# Altium integrated library ON Semi MOSFETs.IntLib: 1097 symbols (part 2 of 26)
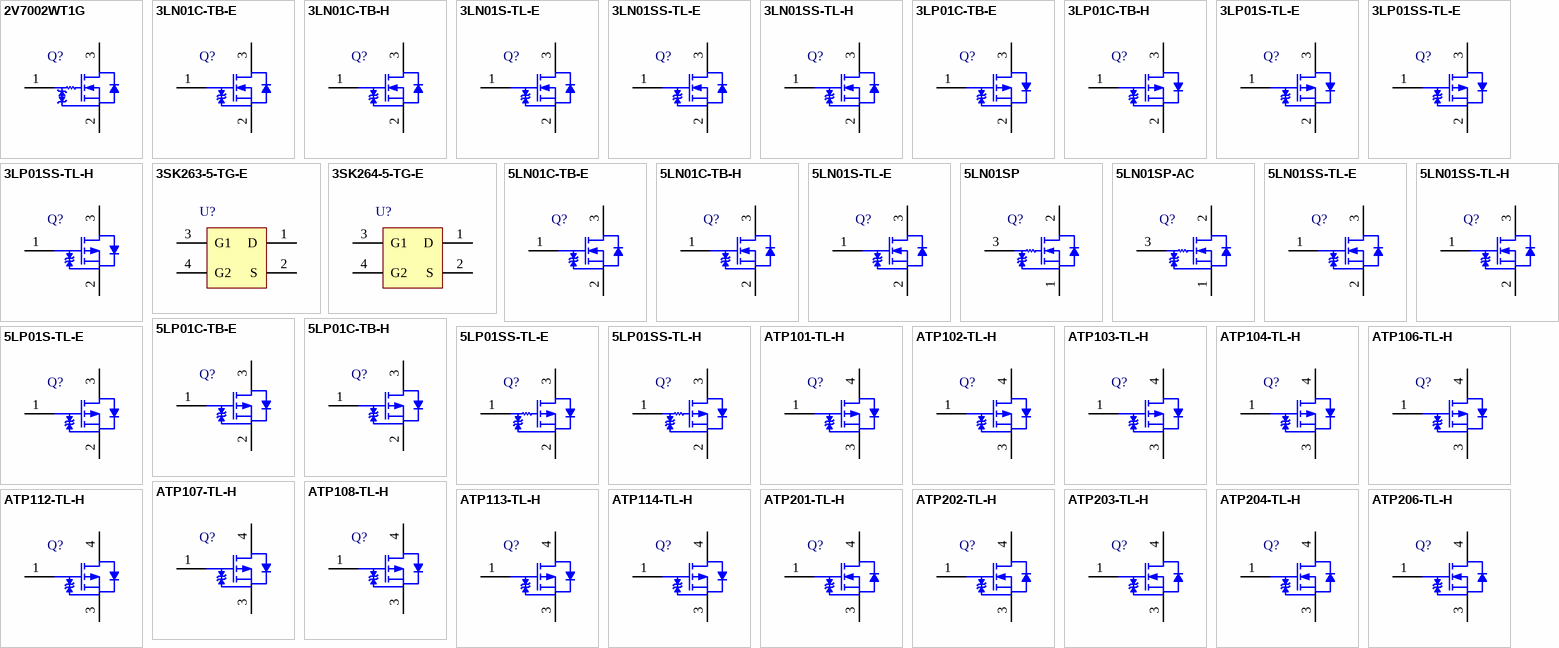
[diagram p32: symbols 2V7002WT1G to ATP206-TL-H]

## 3LN01C-TB-E
designator Q?
N-Channel Small Signal MOSFET, 30 V, 0.15 A, 3.7 Ohm, 3-Pin CP, Pb-Free, Tape and Reel; Manufacturer: On Semiconductor; PartNumber: 3LN01C-TB-E; Channel Polarity: N Channel; Ciss Typ (pF): 7; Configuration: Single; Coss Typ (pF): 5.9; Crss Typ (pF): 2.3; ID Max (A): 0.15; PD Max (W): 0.25; V(BR)DSS Min (V): 30; VGS Max (V): 10; VGS(th) Max (V): 1.3; PackageReference: CP-3-318AN_A; PackageDescription: 3-Pin Small Outline Transistor, Body 2.9 x 1.5 mm, Pitch 0.95 mm; Supplier 1: Mouser; Supplier Part Number 1: 863-3LN01C-TB-E; Package Type: SC-59 / CP; Packing: Tape and Reel; RoHS: Pb-Free; Mounting Technology: Surface Mount; ComponentLink1Description: Manufacturer URL; ComponentLink1URL: http://www.onsemi.com/; ComponentLink2Description: Datasheet; ComponentLink2URL: http://www.onsemi.com/pub_link/Collateral/3LN01C-D.PDF; ComponentLink3Description: Package Specification; ComponentLink3URL: http://www.onsemi.com/pub_link/Collateral/EN6619-D.PDF
footprint ONSC-CP-3-318AN_A_V (SOT23, 3-Leads, Body 2.9x1.5mm, Pitch 0.95mm)
pins: 1 G, 2 S, 3 D

## 3LN01C-TB-H
designator Q?
N-Channel Small Signal MOSFET, 30 V, 0.15 A, 3.7 Ohm, 3-Pin CP, Pb-Free, Tape and Reel; Manufacturer: On Semiconductor; PartNumber: 3LN01C-TB-H; Channel Polarity: N Channel; Ciss Typ (pF): 7; Configuration: Single; Coss Typ (pF): 5.9; Crss Typ (pF): 2.3; ID Max (A): 0.15; PD Max (W): 0.25; V(BR)DSS Min (V): 30; VGS Max (V): 10; VGS(th) Max (V): 1.3; PackageReference: CP-3-318AN_A; PackageDescription: 3-Pin Small Outline Transistor, Body 2.9 x 1.5 mm, Pitch 0.95 mm; Supplier 1: Digi-Key; Supplier Part Number 1: 3LN01C-TB-H-ND; Supplier 2: Mouser; Supplier Part Number 2: 863-3LN01C-TB-H; Package Type: SC-59 / CP; Packing: Tape and Reel; RoHS: Pb-Free; Mounting Technology: Surface Mount; ComponentLink1Description: Manufacturer URL; ComponentLink1URL: http://www.onsemi.com/; ComponentLink2Description: Datasheet; ComponentLink2URL: http://www.onsemi.com/pub_link/Collateral/3LN01C-D.PDF; ComponentLink3Description: Package Specification; ComponentLink3URL: http://www.onsemi.com/pub_link/Collateral/EN6619-D.PDF
footprint ONSC-CP-3-318AN_A_V (SOT23, 3-Leads, Body 2.9x1.5mm, Pitch 0.95mm)
pins: 1 G, 2 S, 3 D

## 3LN01S-TL-E
designator Q?
N-Channel Small Signal MOSFET, 30 V, 0.15 A, 3.7 Ohm, 3-Pin SMCP, Pb-Free, Tape and Reel; Manufacturer: On Semiconductor; PartNumber: 3LN01S-TL-E; Channel Polarity: N Channel; Ciss Typ (pF): 7; Configuration: Single; Coss Typ (pF): 5.9; Crss Typ (pF): 2.3; ID Max (A): 0.15; V(BR)DSS Min (V): 30; VGS Max (V): 10; VGS(th) Max (V): 1.3; PackageReference: SMCP-3; PackageDescription: 3-Pin Small Outline Transistor, Body 1.6 x 0.8 mm, Pitch 0.5 mm; Supplier 1: Digi-Key; Supplier Part Number 1: 3LN01S-TL-E-ND; Supplier 2: Mouser; Supplier Part Number 2: 863-3LN01S-TL-E; Package Type: SC-75 / SMCP; Packing: Tape and Reel; PD Max (W): 0.15; RoHS: Pb-Free; Mounting Technology: Surface Mount; ComponentLink1Description: Manufacturer URL; ComponentLink1URL: http://www.onsemi.com/; ComponentLink2Description: Datasheet; ComponentLink2URL: http://www.onsemi.com/pub_link/Collateral/3LN01S-D.PDF; ComponentLink3Description: Package Specification; ComponentLink3URL: http://www.onsemi.com/pub_link/Collateral/3LN01S-D.PDF
footprint ONSC-SMCP-3_V (SOT23, 3-Leads, Body 1.6x0.8mm, Pitch 0.5mm)
pins: 1 G, 2 S, 3 D

## 3LN01SS-TL-E
designator Q?
N-Channel Small Signal MOSFET, 30 V, 0.15 A, 3.7 Ohm, 3-Pin SSFP, Pb-Free, Tape and Reel; Manufacturer: On Semiconductor; PartNumber: 3LN01SS-TL-E; Channel Polarity: N Channel; Ciss Typ (pF): 7; Configuration: Single; Coss Typ (pF): 5.9; Crss Typ (pF): 2.3; ID Max (A): 0.15; V(BR)DSS Min (V): 30; VGS Max (V): 10; VGS(th) Max (V): 1.3; PackageReference: SSFP-3; PackageDescription: 3-Pin Small Outline Transistor, Body 1.4 x 0.8 mm, Pitch 0.45 mm; Supplier 1: Mouser; Supplier Part Number 1: 863-3LN01SS-TL-E; Package Type: SOT-623 / SSFP; Packing: Tape and Reel; PD Max (W): 0.15; RoHS: Pb-Free; Mounting Technology: Surface Mount; ComponentLink1Description: Manufacturer URL; ComponentLink1URL: http://www.onsemi.com/; ComponentLink2Description: Datasheet; ComponentLink2URL: http://www.onsemi.com/pub_link/Collateral/EN6546-D.PDF; ComponentLink3Description: Package Specification; ComponentLink3URL: http://www.onsemi.com/pub_link/Collateral/55GN01FA.PDF
footprint ONSC-SSFP-3_V (SOT23, 3-Leads, Body 1.4x0.8mm, Pitch 0.45mm)
pins: 1 G, 2 S, 3 D

## 3LN01SS-TL-H
designator Q?
N-Channel Small Signal MOSFET, 30 V, 0.15 A, 3.7 Ohm, 3-Pin SSFP, Pb-Free, Tape and Reel; Manufacturer: On Semiconductor; PartNumber: 3LN01SS-TL-H; Channel Polarity: N Channel; Ciss Typ (pF): 7; Configuration: Single; Coss Typ (pF): 5.9; Crss Typ (pF): 2.3; ID Max (A): 0.15; V(BR)DSS Min (V): 30; VGS Max (V): 10; VGS(th) Max (V): 1.3; PackageReference: SSFP-3; PackageDescription: 3-Pin Small Outline Transistor, Body 1.4 x 0.8 mm, Pitch 0.45 mm; Supplier 1: Digi-Key; Supplier Part Number 1: 3LN01SS-TL-H-ND; Supplier 2: Mouser; Supplier Part Number 2: 863-3LN01SS-TL-H; Package Type: SOT-623 / SSFP; Packing: Tape and Reel; PD Max (W): 0.15; RoHS: Pb-Free; Mounting Technology: Surface Mount; ComponentLink1Description: Manufacturer URL; ComponentLink1URL: http://www.onsemi.com/; ComponentLink2Description: Datasheet; ComponentLink2URL: http://www.onsemi.com/pub_link/Collateral/EN6546-D.PDF; ComponentLink3Description: Package Specification; ComponentLink3URL: http://www.onsemi.com/pub_link/Collateral/55GN01FA.PDF
footprint ONSC-SSFP-3_V (SOT23, 3-Leads, Body 1.4x0.8mm, Pitch 0.45mm)
pins: 1 G, 2 S, 3 D

## 3LP01C-TB-E
designator Q?
P-Channel Small Signal MOSFET, -30 V, -0.1 A, 10.4 Ohm, 3-Pin CP, Pb-Free, Tape and Reel; Manufacturer: On Semiconductor; PartNumber: 3LP01C-TB-E; Channel Polarity: P Channel; Ciss Typ (pF): 7.5; Configuration: Single; Coss Typ (pF): 5.7; Crss Typ (pF): 1.8; ID Max (A): 0.1; PD Max (W): 0.25; V(BR)DSS Min (V): 30; VGS Max (V): 10; VGS(th) Max (V): 1.4; PackageReference: CP-3-318AN_A; PackageDescription: 3-Pin Small Outline Transistor, Body 2.9 x 1.5 mm, Pitch 0.95 mm; Supplier 1: Newark; Supplier Part Number 1: 45W5075; Supplier 2: Mouser; Supplier Part Number 2: 863-3LP01C-TB-E; Package Type: SC-59 / CP; Packing: Tape and Reel; RoHS: Pb-Free; Mounting Technology: Surface Mount; ComponentLink1Description: Manufacturer URL; ComponentLink1URL: http://www.onsemi.com/; ComponentLink2Description: Datasheet; ComponentLink2URL: http://www.onsemi.com/pub_link/Collateral/3LP01C-D.PDF; ComponentLink3Description: Package Specification; ComponentLink3URL: http://www.onsemi.com/pub_link/Collateral/EN6619-D.PDF
footprint ONSC-CP-3-318AN_A_V (SOT23, 3-Leads, Body 2.9x1.5mm, Pitch 0.95mm)
pins: 1 G, 2 S, 3 D

## 3LP01C-TB-H
designator Q?
P-Channel Small Signal MOSFET, -30 V, -0.1 A, 10.4 Ohm, 3-Pin CP, Pb-Free, Tape and Reel; Manufacturer: On Semiconductor; PartNumber: 3LP01C-TB-H; Channel Polarity: P Channel; Ciss Typ (pF): 7.5; Configuration: Single; Coss Typ (pF): 5.7; Crss Typ (pF): 1.8; ID Max (A): 0.1; PD Max (W): 0.25; V(BR)DSS Min (V): 30; VGS Max (V): 10; VGS(th) Max (V): 1.4; PackageReference: CP-3-318AN_A; PackageDescription: 3-Pin Small Outline Transistor, Body 2.9 x 1.5 mm, Pitch 0.95 mm; Supplier 1: Digi-Key; Supplier Part Number 1: 3LP01C-TB-H-ND; Supplier 2: Mouser; Supplier Part Number 2: 863-3LP01C-TB-H; Package Type: SC-59 / CP; Packing: Tape and Reel; RoHS: Pb-Free; Mounting Technology: Surface Mount; ComponentLink1Description: Manufacturer URL; ComponentLink1URL: http://www.onsemi.com/; ComponentLink2Description: Datasheet; ComponentLink2URL: http://www.onsemi.com/pub_link/Collateral/3LP01C-D.PDF; ComponentLink3Description: Package Specification; ComponentLink3URL: http://www.onsemi.com/pub_link/Collateral/EN6619-D.PDF
footprint ONSC-CP-3-318AN_A_V (SOT23, 3-Leads, Body 2.9x1.5mm, Pitch 0.95mm)
pins: 1 G, 2 S, 3 D

## 3LP01S-TL-E
designator Q?
P-Channel Small Signal MOSFET, -30 V, -0.1 A, 10.4 Ohm, 3-Pin SMCP, Pb-Free, Tape and Reel; Manufacturer: On Semiconductor; PartNumber: 3LP01S-TL-E; Channel Polarity: P Channel; Ciss Typ (pF): 7.5; Configuration: Single; Coss Typ (pF): 5.7; Crss Typ (pF): 1.8; ID Max (A): 0.1; PD Max (W): 0.15; V(BR)DSS Min (V): 30; VGS Max (V): 10; VGS(th) Max (V): 1.4; PackageReference: SMCP-3; PackageDescription: 3-Pin Small Outline Transistor, Body 1.6 x 0.8 mm, Pitch 0.5 mm; Supplier 1: Digi-Key; Supplier Part Number 1: 3LP01S-TL-E-ND; Supplier 2: Mouser; Supplier Part Number 2: 863-3LP01S-TL-E; Package Type: SC-75 / SMCP; Packing: Tape and Reel; RoHS: Pb-Free; Mounting Technology: Surface Mount; ComponentLink1Description: Manufacturer URL; ComponentLink1URL: http://www.onsemi.com/; ComponentLink2Description: Datasheet; ComponentLink2URL: http://www.onsemi.com/pub_link/Collateral/3LP01S-D.PDF; ComponentLink3Description: Package Specification; ComponentLink3URL: http://www.onsemi.com/pub_link/Collateral/3LN01S-D.PDF
footprint ONSC-SMCP-3_V (SOT23, 3-Leads, Body 1.6x0.8mm, Pitch 0.5mm)
pins: 1 G, 2 S, 3 D

## 3LP01SS-TL-E
designator Q?
P-Channel Small Signal MOSFET, -30 V, -0.1 A, 10.4 Ohm, 3-Pin SSFP, Pb-Free, Tape and Reel; Manufacturer: On Semiconductor; PartNumber: 3LP01SS-TL-E; Channel Polarity: P Channel; Ciss Typ (pF): 7.5; Configuration: Single; Coss Typ (pF): 5.7; Crss Typ (pF): 1.8; ID Max (A): 0.1; PD Max (W): 0.15; V(BR)DSS Min (V): 30; VGS Max (V): 10; VGS(th) Max (V): 1.4; PackageReference: SSFP-3; PackageDescription: 3-Pin Small Outline Transistor, Body 1.4 x 0.8 mm, Pitch 0.45 mm; Supplier 1: Mouser; Supplier Part Number 1: 863-3LP01SS-TL-E; Package Type: SOT-623 / SSFP; Packing: Tape and Reel; RoHS: Pb-Free; Mounting Technology: Surface Mount; ComponentLink1Description: Manufacturer URL; ComponentLink1URL: http://www.onsemi.com/; ComponentLink2Description: Datasheet; ComponentLink2URL: http://www.onsemi.com/pub_link/Collateral/EN6648-D.PDF; ComponentLink3Description: Package Specification; ComponentLink3URL: http://www.onsemi.com/pub_link/Collateral/55GN01FA.PDF
footprint ONSC-SSFP-3_V (SOT23, 3-Leads, Body 1.4x0.8mm, Pitch 0.45mm)
pins: 1 G, 2 S, 3 D

## 3LP01SS-TL-H
designator Q?
P-Channel Small Signal MOSFET, -30 V, -0.1 A, 10.4 Ohm, 3-Pin SSFP, Pb-Free, Tape and Reel; Manufacturer: On Semiconductor; PartNumber: 3LP01SS-TL-H; Channel Polarity: P Channel; Ciss Typ (pF): 7.5; Configuration: Single; Coss Typ (pF): 5.7; Crss Typ (pF): 1.8; ID Max (A): 0.1; PD Max (W): 0.15; V(BR)DSS Min (V): 30; VGS Max (V): 10; VGS(th) Max (V): 1.4; PackageReference: SSFP-3; PackageDescription: 3-Pin Small Outline Transistor, Body 1.4 x 0.8 mm, Pitch 0.45 mm; Supplier 1: Digi-Key; Supplier Part Number 1: 3LP01SS-TL-H-ND; Supplier 2: Newark; Supplier Part Number 2: 52T9526; Supplier 3: Mouser; Supplier Part Number 3: 863-3LP01SS-TL-H; Package Type: SOT-623 / SSFP; Packing: Tape and Reel; RoHS: Pb-Free; Mounting Technology: Surface Mount; ComponentLink1Description: Manufacturer URL; ComponentLink1URL: http://www.onsemi.com/; ComponentLink2Description: Datasheet; ComponentLink2URL: http://www.onsemi.com/pub_link/Collateral/EN6648-D.PDF; ComponentLink3Description: Package Specification; ComponentLink3URL: http://www.onsemi.com/pub_link/Collateral/55GN01FA.PDF
footprint ONSC-SSFP-3_V (SOT23, 3-Leads, Body 1.4x0.8mm, Pitch 0.45mm)
pins: 1 G, 2 S, 3 D

## 3SK263-5-TG-E
designator U?
N-Channel Dual Gate MOSFET, 15 V, 30 mA, 4-Pin CP, Pb-Free, Tape and Reel; Manufacturer: On Semiconductor; PartNumber: 3SK263-5-TG-E; Channel Polarity: N Channel; Ciss Typ (pF): 2.7; Crss Typ (pF): 0.015; ID Max (A): 0.03; PD Max (W): 0.2; V(BR)DSS Min (V): 15; VGS Max (V): 8; PackageVersion: Rev. O, 11/2011; PackageReference: CP-4-318BE; PackageDescription: 4-Pin Small Outline Transistor, Body 2.9 x 1.5 mm; Supplier 1: Digi-Key; Supplier Part Number 1: 869-1115-2-ND; Supplier 2: Digi-Key; Supplier Part Number 2: 869-1115-1-ND; Supplier 3: Digi-Key; Supplier Part Number 3: 869-1115-6-ND; Supplier 4: Newark; Supplier Part Number 4: 60W2043; Supplier 5: Mouser; Supplier Part Number 5: 863-3SK263-5-TG-E; Configuration: Dual; Package Type: CP-4; Packing: Tape and Reel; RoHS: Pb-Free; Mounting Technology: Surface Mount; ComponentLink1Description: Manufacturer URL; ComponentLink1URL: http://www.onsemi.com/; ComponentLink2Description: Datasheet; ComponentLink2URL: http://www.onsemi.com/pub_link/Collateral/EN4423-D.PDF; ComponentLink3Description: Package Specification; ComponentLink3URL: http://www.onsemi.com/pub_link/Collateral/318BE.PDF
footprint ONSC-CP-4-318BE_N (SOT143, 4-Leads, Body 3.05x1.65mm, Pitch 1.9mm, IPC Medium Density)
footprint ONSC-CP-4-318BE_L (SOT143, 4-Leads, Body 3.05x1.65mm, Pitch 1.9mm, IPC High Density)
footprint ONSC-CP-4-318BE_M (SOT143, 4-Leads, Body 3.05x1.65mm, Pitch 1.9mm, IPC Low Density)
pins: 1 D, 2 S, 3 G1, 4 G2

## 3SK264-5-TG-E
designator U?
N-Channel Dual Gate MOSFET, 15 V, 30 mA, 4-Pin CP, Pb-Free, Tape and Reel; Manufacturer: On Semiconductor; PartNumber: 3SK264-5-TG-E; Channel Polarity: N Channel; Ciss Typ (pF): 2.5; Crss Typ (pF): 0.015; ID Max (A): 0.03; PD Max (W): 0.2; V(BR)DSS Min (V): 15; VGS Max (V): 8; PackageReference: CP-4; PackageDescription: 4-Pin Small Outline Transistor, Body 2.9 x 1.5 mm; Supplier 1: Newark; Supplier Part Number 1: 60W2044; Supplier 2: Mouser; Supplier Part Number 2: 863-3SK264-5-TG-E; Configuration: Dual; Packing: Tape and Reel; RoHS: Pb-Free; Mounting Technology: Surface Mount; ComponentLink1Description: Manufacturer URL; ComponentLink1URL: http://www.onsemi.com/; ComponentLink2Description: Datasheet; ComponentLink2URL: http://www.onsemi.com/pub_link/Collateral/EN4901-D.PDF; ComponentLink3Description: Package Specification; ComponentLink3URL: http://www.onsemi.com/pub_link/Collateral/EN4423-D.PDF
footprint ONSC-CP-4_V (SOT, 4-Leads, Body 3.05x1.65mm)
pins: 1 D, 2 S, 3 G1, 4 G2

## 5LN01C-TB-E
designator Q?
N-Channel Small Signal MOSFET, 50 V, 0.1 A, 7.8 Ohm, 3-Pin CP, Pb-Free, Tape and Reel; Manufacturer: On Semiconductor; PartNumber: 5LN01C-TB-E; Channel Polarity: N Channel; Ciss Typ (pF): 6.6; Configuration: Single; Coss Typ (pF): 4.7; Crss Typ (pF): 1.7; ID Max (A): 0.1; PD Max (W): 0.25; V(BR)DSS Min (V): 50; VGS Max (V): 10; VGS(th) Max (V): 1.3; PackageReference: CP-3-318AN_A; PackageDescription: 3-Pin Small Outline Transistor, Body 2.9 x 1.5 mm, Pitch 0.95 mm; Supplier 1: Digi-Key; Supplier Part Number 1: 5LN01C-TB-E-ND; Supplier 2: Mouser; Supplier Part Number 2: 863-5LN01C-TB-E; Package Type: SC-59 / CP; Packing: Tape and Reel; RoHS: Pb-Free; Mounting Technology: Surface Mount; ComponentLink1Description: Manufacturer URL; ComponentLink1URL: http://www.onsemi.com/; ComponentLink2Description: Datasheet; ComponentLink2URL: http://www.onsemi.com/pub_link/Collateral/EN6555A-D.PDF; ComponentLink3Description: Package Specification; ComponentLink3URL: http://www.onsemi.com/pub_link/Collateral/EN6619-D.PDF
footprint ONSC-CP-3-318AN_A_V (SOT23, 3-Leads, Body 2.9x1.5mm, Pitch 0.95mm)
pins: 1 G, 2 S, 3 D

## 5LN01C-TB-H
designator Q?
N-Channel Small Signal MOSFET, 50 V, 0.1 A, 7.8 Ohm, 3-Pin CP, Pb-Free, Tape and Reel; Manufacturer: On Semiconductor; PartNumber: 5LN01C-TB-H; Channel Polarity: N Channel; Ciss Typ (pF): 6.6; Configuration: Single; Coss Typ (pF): 4.7; Crss Typ (pF): 1.7; ID Max (A): 0.1; PD Max (W): 0.25; V(BR)DSS Min (V): 50; VGS Max (V): 10; VGS(th) Max (V): 1.3; PackageReference: CP-3-318AN_A; PackageDescription: 3-Pin Small Outline Transistor, Body 2.9 x 1.5 mm, Pitch 0.95 mm; Supplier 1: Digi-Key; Supplier Part Number 1: 5LN01C-TB-H-ND; Supplier 2: Mouser; Supplier Part Number 2: 863-5LN01C-TB-H; Package Type: SC-59 / CP; Packing: Tape and Reel; RoHS: Pb-Free; Mounting Technology: Surface Mount; ComponentLink1Description: Manufacturer URL; ComponentLink1URL: http://www.onsemi.com/; ComponentLink2Description: Datasheet; ComponentLink2URL: http://www.onsemi.com/pub_link/Collateral/EN6555A-D.PDF; ComponentLink3Description: Package Specification; ComponentLink3URL: http://www.onsemi.com/pub_link/Collateral/EN6619-D.PDF
footprint ONSC-CP-3-318AN_A_V (SOT23, 3-Leads, Body 2.9x1.5mm, Pitch 0.95mm)
pins: 1 G, 2 S, 3 D

## 5LN01S-TL-E
designator Q?
N-Channel Small Signal MOSFET, 50 V, 0.1 A, 7.8 Ohm, 3-Pin SMCP, Pb-Free, Tape and Reel; Manufacturer: On Semiconductor; PartNumber: 5LN01S-TL-E; Channel Polarity: N Channel; Ciss Typ (pF): 6.6; Configuration: Single; Coss Typ (pF): 4.7; Crss Typ (pF): 1.7; ID Max (A): 0.1; PD Max (W): 0.15; V(BR)DSS Min (V): 50; VGS Max (V): 10; VGS(th) Max (V): 1.3; PackageReference: SMCP-3; PackageDescription: 3-Pin Small Outline Transistor, Body 1.6 x 0.8 mm, Pitch 0.5 mm; Supplier 1: Digi-Key; Supplier Part Number 1: 5LN01S-TL-E-ND; Supplier 2: Mouser; Supplier Part Number 2: 863-5LN01S-TL-E; Package Type: SC-75 / SMCP; Packing: Tape and Reel; RoHS: Pb-Free; Mounting Technology: Surface Mount; ComponentLink1Description: Manufacturer URL; ComponentLink1URL: http://www.onsemi.com/; ComponentLink2Description: Datasheet; ComponentLink2URL: http://www.onsemi.com/pub_link/Collateral/EN6561-D.PDF; ComponentLink3Description: Package Specification; ComponentLink3URL: http://www.onsemi.com/pub_link/Collateral/3LN01S-D.PDF
footprint ONSC-SMCP-3_V (SOT23, 3-Leads, Body 1.6x0.8mm, Pitch 0.5mm)
pins: 1 G, 2 S, 3 D

## 5LN01SP
designator Q?
N-Channel Small Signal MOSFET, 50 V, 0.1 A, 7.8 Ohm, 3-Pin SPA, Pb-Free, Bulk Bag; Manufacturer: On Semiconductor; PartNumber: 5LN01SP; Channel Polarity: N Channel; Ciss Typ (pF): 6.6; Configuration: Single; Coss Typ (pF): 4.7; Crss Typ (pF): 1.7; ID Max (A): 0.1; PD Max (W): 0.25; V(BR)DSS Min (V): 50; VGS Max (V): 10; VGS(th) Max (V): 1.3; PackageVersion: Rev. O, 02/2012; PackageReference: SPA-3-135AC; PackageDescription: 3-Pin Transistor Outline, Body 4 x 2.2 mm, Pitch 1.3 mm; Supplier 1: Newark; Supplier Part Number 1: 60W2045; Supplier 2: Mouser; Supplier Part Number 2: 863-5LN01SP; Package Type: TO-92 / SPA; Packing: Bulk Bag; RoHS: Pb-Free; Mounting Technology: Through Hole; ComponentLink1Description: Manufacturer URL; ComponentLink1URL: http://www.onsemi.com/; ComponentLink2Description: Datasheet; ComponentLink2URL: http://www.onsemi.com/pub_link/Collateral/EN6559-D.PDF; ComponentLink3Description: Package Specification; ComponentLink3URL: http://www.onsemi.com/pub_link/Collateral/135AC.PDF
footprint ONSC-SPA-3-135AC_V (FM, 3-Leads, Body 4x2.2mm, Pitch 1.3mm)
pins: 1 S, 2 D, 3 G

## 5LN01SP-AC
designator Q?
N-Channel Small Signal MOSFET, 50 V, 0.1 A, 7.8 Ohm, 3-Pin SPA, Pb-Free, Bulk Box; Manufacturer: On Semiconductor; PartNumber: 5LN01SP-AC; Channel Polarity: N Channel; Ciss Typ (pF): 6.6; Configuration: Single; Coss Typ (pF): 4.7; Crss Typ (pF): 1.7; ID Max (A): 0.1; PD Max (W): 0.25; V(BR)DSS Min (V): 50; VGS Max (V): 10; VGS(th) Max (V): 1.3; PackageVersion: Rev. O, 04/2012; PackageReference: SPA-3-135AK; PackageDescription: 3-Pin Transistor Outline, Body 4 x 2.2 mm, Pitch 2.5 mm; Supplier 1: Digi-Key; Supplier Part Number 1: 5LN01SP-AC-ND; Supplier 2: Mouser; Supplier Part Number 2: 863-5LN01SP-AC; Package Type: TO-92 / SPA; Packing: Bulk Box; RoHS: Pb-Free; Mounting Technology: Through Hole; ComponentLink1Description: Manufacturer URL; ComponentLink1URL: http://www.onsemi.com/; ComponentLink2Description: Datasheet; ComponentLink2URL: http://www.onsemi.com/pub_link/Collateral/EN6559-D.PDF; ComponentLink3Description: Package Specification; ComponentLink3URL: http://www.onsemi.com/pub_link/Collateral/135AK.PDF
footprint ONSC-SPA-3-135AK_V (SPA, 3-Leads, Body 4x2.2mm, Pitch 2.5mm)
pins: 1 S, 2 D, 3 G

## 5LN01SS-TL-E
designator Q?
N-Channel Small Signal MOSFET, 50 V, 0.1 A, 7.8 Ohm, 3-Pin SSFP, Pb-Free, Tape and Reel; Manufacturer: On Semiconductor; PartNumber: 5LN01SS-TL-E; Channel Polarity: N Channel; Ciss Typ (pF): 6.6; Configuration: Single; Coss Typ (pF): 4.7; Crss Typ (pF): 1.7; ID Max (A): 0.1; PD Max (W): 0.15; V(BR)DSS Min (V): 50; VGS Max (V): 10; VGS(th) Max (V): 1.3; PackageReference: SSFP-3; PackageDescription: 3-Pin Small Outline Transistor, Body 1.4 x 0.8 mm, Pitch 0.45 mm; Supplier 1: Digi-Key; Supplier Part Number 1: 5LN01SS-TL-E-ND; Supplier 2: Mouser; Supplier Part Number 2: 863-5LN01SS-TL-E; Package Type: SOT-623 / SSFP; Packing: Tape and Reel; RoHS: Pb-Free; Mounting Technology: Surface Mount; ComponentLink1Description: Manufacturer URL; ComponentLink1URL: http://www.onsemi.com/; ComponentLink2Description: Datasheet; ComponentLink2URL: http://www.onsemi.com/pub_link/Collateral/5LN01SS-D.PDF; ComponentLink3Description: Package Specification; ComponentLink3URL: http://www.onsemi.com/pub_link/Collateral/55GN01FA.PDF
footprint ONSC-SSFP-3_V (SOT23, 3-Leads, Body 1.4x0.8mm, Pitch 0.45mm)
pins: 1 G, 2 S, 3 D

## 5LN01SS-TL-H
designator Q?
N-Channel Small Signal MOSFET, 50 V, 0.1 A, 7.8 Ohm, 3-Pin SSFP, Pb-Free, Tape and Reel; Manufacturer: On Semiconductor; PartNumber: 5LN01SS-TL-H; Channel Polarity: N Channel; Ciss Typ (pF): 6.6; Configuration: Single; Coss Typ (pF): 4.7; Crss Typ (pF): 1.7; ID Max (A): 0.1; PD Max (W): 0.15; V(BR)DSS Min (V): 50; VGS Max (V): 10; VGS(th) Max (V): 1.3; PackageReference: SSFP-3; PackageDescription: 3-Pin Small Outline Transistor, Body 1.4 x 0.8 mm, Pitch 0.45 mm; Supplier 1: Digi-Key; Supplier Part Number 1: 5LN01SS-TL-H-ND; Supplier 2: Mouser; Supplier Part Number 2: 863-5LN01SS-TL-H; Package Type: SOT-623 / SSFP; Packing: Tape and Reel; RoHS: Pb-Free; Mounting Technology: Surface Mount; ComponentLink1Description: Manufacturer URL; ComponentLink1URL: http://www.onsemi.com/; ComponentLink2Description: Datasheet; ComponentLink2URL: http://www.onsemi.com/pub_link/Collateral/5LN01SS-D.PDF; ComponentLink3Description: Package Specification; ComponentLink3URL: http://www.onsemi.com/pub_link/Collateral/55GN01FA.PDF
footprint ONSC-SSFP-3_V (SOT23, 3-Leads, Body 1.4x0.8mm, Pitch 0.45mm)
pins: 1 G, 2 S, 3 D

## 5LP01C-TB-E
designator Q?
P-Channel Small Signal MOSFET, -50 V, -0.07 A, 23 Ohm, 3-Pin CP, Pb-Free, Tape and Reel; Manufacturer: On Semiconductor; PartNumber: 5LP01C-TB-E; Channel Polarity: P Channel; Ciss Typ (pF): 7.4; Configuration: Single; Coss Typ (pF): 4.2; Crss Typ (pF): 1.3; ID Max (A): 0.07; PD Max (W): 0.25; V(BR)DSS Min (V): 50; VGS Max (V): 10; VGS(th) Max (V): 1.4; PackageReference: CP-3-318AN_A; PackageDescription: 3-Pin Small Outline Transistor, Body 2.9 x 1.5 mm, Pitch 0.95 mm; Supplier 1: Digi-Key; Supplier Part Number 1: 5LP01C-TB-E-ND; Supplier 2: Mouser; Supplier Part Number 2: 863-5LP01C-TB-E; Package Type: SC-59 / CP; Packing: Tape and Reel; RoHS: Pb-Free; Mounting Technology: Surface Mount; ComponentLink1Description: Manufacturer URL; ComponentLink1URL: http://www.onsemi.com/; ComponentLink2Description: Datasheet; ComponentLink2URL: http://www.onsemi.com/pub_link/Collateral/EN6619-D.PDF; ComponentLink3Description: Package Specification; ComponentLink3URL: http://www.onsemi.com/pub_link/Collateral/EN6619-D.PDF
footprint ONSC-CP-3-318AN_A_V (SOT23, 3-Leads, Body 2.9x1.5mm, Pitch 0.95mm)
pins: 1 G, 2 S, 3 D

## 5LP01C-TB-H
designator Q?
P-Channel Small Signal MOSFET, -50 V, -0.07 A, 23 Ohm, 3-Pin CP, Pb-Free, Tape and Reel; Manufacturer: On Semiconductor; PartNumber: 5LP01C-TB-H; Channel Polarity: P Channel; Ciss Typ (pF): 7.4; Configuration: Single; Coss Typ (pF): 4.2; Crss Typ (pF): 1.3; ID Max (A): 0.07; PD Max (W): 0.25; V(BR)DSS Min (V): 50; VGS Max (V): 10; VGS(th) Max (V): 1.4; PackageReference: CP-3-318AN_A; PackageDescription: 3-Pin Small Outline Transistor, Body 2.9 x 1.5 mm, Pitch 0.95 mm; Supplier 1: Digi-Key; Supplier Part Number 1: 5LP01C-TB-H-ND; Supplier 2: Mouser; Supplier Part Number 2: 863-5LP01C-TB-H; Package Type: SC-59 / CP; Packing: Tape and Reel; RoHS: Pb-Free; Mounting Technology: Surface Mount; ComponentLink1Description: Manufacturer URL; ComponentLink1URL: http://www.onsemi.com/; ComponentLink2Description: Datasheet; ComponentLink2URL: http://www.onsemi.com/pub_link/Collateral/EN6619-D.PDF; ComponentLink3Description: Package Specification; ComponentLink3URL: http://www.onsemi.com/pub_link/Collateral/EN6619-D.PDF
footprint ONSC-CP-3-318AN_A_V (SOT23, 3-Leads, Body 2.9x1.5mm, Pitch 0.95mm)
pins: 1 G, 2 S, 3 D

## 5LP01S-TL-E
designator Q?
P-Channel Small Signal MOSFET, -50 V, -0.07 A, 23 Ohm, 3-Pin SMCP, Pb-Free, Tape and Reel; Manufacturer: On Semiconductor; PartNumber: 5LP01S-TL-E; Channel Polarity: P Channel; Ciss Typ (pF): 7.4; Configuration: Single; Coss Typ (pF): 4.2; Crss Typ (pF): 1.3; ID Max (A): 0.07; PD Max (W): 0.15; V(BR)DSS Min (V): 50; VGS Max (V): 10; VGS(th) Max (V): 1.4; PackageReference: SMCP-3; PackageDescription: 3-Pin Small Outline Transistor, Body 1.6 x 0.8 mm, Pitch 0.5 mm; Supplier 1: Digi-Key; Supplier Part Number 1: 5LP01S-TL-E-ND; Supplier 2: Mouser; Supplier Part Number 2: 863-5LP01S-TL-E; Package Type: SC-75 / SMCP; Packing: Tape and Reel; RoHS: Pb-Free; Mounting Technology: Surface Mount; ComponentLink1Description: Manufacturer URL; ComponentLink1URL: http://www.onsemi.com/; ComponentLink2Description: Datasheet; ComponentLink2URL: http://www.onsemi.com/pub_link/Collateral/EN6666-D.PDF; ComponentLink3Description: Package Specification; ComponentLink3URL: http://www.onsemi.com/pub_link/Collateral/3LN01S-D.PDF
footprint ONSC-SMCP-3_V (SOT23, 3-Leads, Body 1.6x0.8mm, Pitch 0.5mm)
pins: 1 G, 2 S, 3 D

## 5LP01SS-TL-E
designator Q?
P-Channel Small Signal MOSFET, -50 V, -0.07 A, 23 Ohm, 3-Pin SSFP, Pb-Free, Tape and Reel; Manufacturer: On Semiconductor; PartNumber: 5LP01SS-TL-E; Channel Polarity: P Channel; Ciss Typ (pF): 7.4; Configuration: Single; Coss Typ (pF): 4.2; Crss Typ (pF): 1.3; ID Max (A): 0.07; PD Max (W): 0.15; V(BR)DSS Min (V): 50; VGS Max (V): 10; VGS(th) Max (V): 1.4; PackageReference: SSFP-3; PackageDescription: 3-Pin Small Outline Transistor, Body 1.4 x 0.8 mm, Pitch 0.45 mm; Supplier 1: Digi-Key; Supplier Part Number 1: 5LP01SS-TL-E-ND; Supplier 2: Mouser; Supplier Part Number 2: 863-5LP01SS-TL-E; Package Type: SOT-623 / SSFP; Packing: Tape and Reel; RoHS: Pb-Free; Mounting Technology: Surface Mount; ComponentLink1Description: Manufacturer URL; ComponentLink1URL: http://www.onsemi.com/; ComponentLink2Description: Datasheet; ComponentLink2URL: http://www.onsemi.com/pub_link/Collateral/EN6622-D.PDF; ComponentLink3Description: Package Specification; ComponentLink3URL: http://www.onsemi.com/pub_link/Collateral/55GN01FA.PDF
footprint ONSC-SSFP-3_V (SOT23, 3-Leads, Body 1.4x0.8mm, Pitch 0.45mm)
pins: 1 G, 2 S, 3 D

## 5LP01SS-TL-H
designator Q?
P-Channel Small Signal MOSFET, -50 V, -0.07 A, 23 Ohm, 3-Pin SSFP, Pb-Free, Tape and Reel; Manufacturer: On Semiconductor; PartNumber: 5LP01SS-TL-H; Channel Polarity: P Channel; Ciss Typ (pF): 7.4; Configuration: Single; Coss Typ (pF): 4.2; Crss Typ (pF): 1.3; ID Max (A): 0.07; PD Max (W): 0.15; V(BR)DSS Min (V): 50; VGS Max (V): 10; VGS(th) Max (V): 1.4; PackageReference: SSFP-3; PackageDescription: 3-Pin Small Outline Transistor, Body 1.4 x 0.8 mm, Pitch 0.45 mm; Supplier 1: Digi-Key; Supplier Part Number 1: 5LP01SS-TL-H-ND; Supplier 2: Mouser; Supplier Part Number 2: 863-5LP01SS-TL-H; Package Type: SOT-623 / SSFP; Packing: Tape and Reel; RoHS: Pb-Free; Mounting Technology: Surface Mount; ComponentLink1Description: Manufacturer URL; ComponentLink1URL: http://www.onsemi.com/; ComponentLink2Description: Datasheet; ComponentLink2URL: http://www.onsemi.com/pub_link/Collateral/EN6622-D.PDF; ComponentLink3Description: Package Specification; ComponentLink3URL: http://www.onsemi.com/pub_link/Collateral/55GN01FA.PDF
footprint ONSC-SSFP-3_V (SOT23, 3-Leads, Body 1.4x0.8mm, Pitch 0.45mm)
pins: 1 G, 2 S, 3 D

## ATP101-TL-H
designator Q?
P-Channel Power MOSFET, -30 V, -25 A, 30 mOhm, Single, 3-Pin ATPAK, Pb-Free, Tape and Reel; Manufacturer: On Semiconductor; PartNumber: ATP101-TL-H; Channel Polarity: P Channel; Ciss Typ (pF): 875; Coss Typ (pF): 220; Crss Typ (pF): 155; ID Max (A): 25; PD Max (W): 30; VGS Max (V): 20; VGS(th) Max (V): 2.6; PackageVersion: Rev. O, 02/2012; PackageReference: ATPAK-3-369AM; PackageDescription: 3-Pin Flange Mount, Body 6.5 x 7.3 mm, Pitch 2.3 mm; Supplier 1: Digi-Key; Supplier Part Number 1: ATP101-TL-H-ND; Supplier 2: Mouser; Supplier Part Number 2: 863-ATP101-TL-H; Configuration: Single; Package Type: DPAK (Single Gauge) / ATPAK; Packing: Tape and Reel; RoHS: Pb-Free; V(BR)DSS Min (V): 30; Mounting Technology: Surface Mount; ComponentLink1Description: Manufacturer URL; ComponentLink1URL: http://www.onsemi.com/; ComponentLink2Description: Datasheet; ComponentLink2URL: http://www.onsemi.com/pub_link/Collateral/ENA1646-D.PDF; ComponentLink3Description: Package Specification; ComponentLink3URL: http://www.onsemi.com/pub_link/Collateral/369AM.PDF
footprint ONSC-ATPAK-3-369AM_V (DPAK, 3-Leads, Body 7.3x6.5mm, Pitch 2.3mm)
pins: 1 G, 3 S, 4 D

## ATP102-TL-H
designator Q?
P-Channel Power MOSFET, -30 V, -40 A, 18.5 mOhm, Single, 3-Pin ATPAK, Pb-Free, Tape and Reel; Manufacturer: On Semiconductor; PartNumber: ATP102-TL-H; Channel Polarity: P Channel; Ciss Typ (pF): 1490; Coss Typ (pF): 360; Crss Typ (pF): 270; ID Max (A): 40; V(BR)DSS Min (V): 30; VGS Max (V): 20; VGS(th) Max (V): 2.6; PackageVersion: Rev. O, 02/2012; PackageReference: ATPAK-3-369AM; PackageDescription: 3-Pin Flange Mount, Body 6.5 x 7.3 mm, Pitch 2.3 mm; Supplier 1: Digi-Key; Supplier Part Number 1: 869-1073-2-ND; Supplier 2: Digi-Key; Supplier Part Number 2: 869-1073-1-ND; Supplier 3: Digi-Key; Supplier Part Number 3: 869-1073-6-ND; Supplier 4: Mouser; Supplier Part Number 4: 863-ATP102-TL-H; Configuration: Single; Package Type: DPAK (Single Gauge) / ATPAK; Packing: Tape and Reel; PD Max (W): 40; RoHS: Pb-Free; Mounting Technology: Surface Mount; ComponentLink1Description: Manufacturer URL; ComponentLink1URL: http://www.onsemi.com/; ComponentLink2Description: Datasheet; ComponentLink2URL: http://www.onsemi.com/pub_link/Collateral/ATP102-D.PDF; ComponentLink3Description: Package Specification; ComponentLink3URL: http://www.onsemi.com/pub_link/Collateral/369AM.PDF
footprint ONSC-ATPAK-3-369AM_V (DPAK, 3-Leads, Body 7.3x6.5mm, Pitch 2.3mm)
pins: 1 G, 3 S, 4 D

## ATP103-TL-H
designator Q?
P-Channel Power MOSFET, -30 V, -55 A, 13 mOhm, Single, 3-Pin ATPAK, Pb-Free, Tape and Reel; Manufacturer: On Semiconductor; PartNumber: ATP103-TL-H; Channel Polarity: P Channel; Ciss Typ (pF): 2430; Coss Typ (pF): 555; Crss Typ (pF): 395; ID Max (A): 55; PD Max (W): 50; V(BR)DSS Min (V): 30; VGS Max (V): 20; VGS(th) Max (V): 2.6; PackageVersion: Rev. O, 02/2012; PackageReference: ATPAK-3-369AM; PackageDescription: 3-Pin Flange Mount, Body 6.5 x 7.3 mm, Pitch 2.3 mm; Supplier 1: Digi-Key; Supplier Part Number 1: ATP103-TL-H-ND; Supplier 2: Mouser; Supplier Part Number 2: 863-ATP103-TL-H; Configuration: Single; Package Type: DPAK (Single Gauge) / ATPAK; Packing: Tape and Reel; RoHS: Pb-Free; Mounting Technology: Surface Mount; ComponentLink1Description: Manufacturer URL; ComponentLink1URL: http://www.onsemi.com/; ComponentLink2Description: Datasheet; ComponentLink2URL: http://www.onsemi.com/pub_link/Collateral/ENA1623-D.PDF; ComponentLink3Description: Package Specification; ComponentLink3URL: http://www.onsemi.com/pub_link/Collateral/369AM.PDF
footprint ONSC-ATPAK-3-369AM_V (DPAK, 3-Leads, Body 7.3x6.5mm, Pitch 2.3mm)
pins: 1 G, 3 S, 4 D

## ATP104-TL-H
designator Q?
P-Channel Power MOSFET, -30 V, -75 A, 8.4 mOhm, Single, 3-Pin ATPAK, Pb-Free, Tape and Reel; Manufacturer: On Semiconductor; PartNumber: ATP104-TL-H; Channel Polarity: P Channel; Ciss Typ (pF): 3950; Coss Typ (pF): 880; Crss Typ (pF): 610; ID Max (A): 75; PD Max (W): 60; V(BR)DSS Min (V): 30; VGS Max (V): 20; VGS(th) Max (V): 2.6; PackageVersion: Rev. O, 02/2012; PackageReference: ATPAK-3-369AM; PackageDescription: 3-Pin Flange Mount, Body 6.5 x 7.3 mm, Pitch 2.3 mm; Supplier 1: Digi-Key; Supplier Part Number 1: 869-1074-2-ND; Supplier 2: Digi-Key; Supplier Part Number 2: 869-1074-1-ND; Supplier 3: Digi-Key; Supplier Part Number 3: 869-1074-6-ND; Supplier 4: Newark; Supplier Part Number 4: 52T7522; Supplier 5: Mouser; Supplier Part Number 5: 863-ATP104-TL-H; Configuration: Single; Package Type: DPAK (Single Gauge) / ATPAK; Packing: Tape and Reel; RoHS: Pb-Free; Mounting Technology: Surface Mount; ComponentLink1Description: Manufacturer URL; ComponentLink1URL: http://www.onsemi.com/; ComponentLink2Description: Datasheet; ComponentLink2URL: http://www.onsemi.com/pub_link/Collateral/ATP104-D.PDF; ComponentLink3Description: Package Specification; ComponentLink3URL: http://www.onsemi.com/pub_link/Collateral/369AM.PDF
footprint ONSC-ATPAK-3-369AM_V (DPAK, 3-Leads, Body 7.3x6.5mm, Pitch 2.3mm)
pins: 1 G, 3 S, 4 D

## ATP106-TL-H
designator Q?
P-Channel Power MOSFET, -40 V, -30 A, 25 mOhm, Single, 3-Pin ATPAK, Pb-Free, Tape and Reel; Manufacturer: On Semiconductor; PartNumber: ATP106-TL-H; Channel Polarity: P Channel; Ciss Typ (pF): 1380; Coss Typ (pF): 210; Crss Typ (pF): 150; ID Max (A): 30; PD Max (W): 40; VGS Max (V): 20; VGS(th) Max (V): 2.6; PackageVersion: Rev. O, 02/2012; PackageReference: ATPAK-3-369AM; PackageDescription: 3-Pin Flange Mount, Body 6.5 x 7.3 mm, Pitch 2.3 mm; Supplier 1: Digi-Key; Supplier Part Number 1: 869-1075-2-ND; Supplier 2: Digi-Key; Supplier Part Number 2: 869-1075-1-ND; Supplier 3: Digi-Key; Supplier Part Number 3: 869-1075-6-ND; Supplier 4: Newark; Supplier Part Number 4: 52T7523; Supplier 5: Mouser; Supplier Part Number 5: 863-ATP106-TL-H; Configuration: Single; Package Type: DPAK (Single Gauge) / ATPAK; Packing: Tape and Reel; RoHS: Pb-Free; V(BR)DSS Min (V): 40; Mounting Technology: Surface Mount; ComponentLink1Description: Manufacturer URL; ComponentLink1URL: http://www.onsemi.com/; ComponentLink2Description: Datasheet; ComponentLink2URL: http://www.onsemi.com/pub_link/Collateral/ENA1597-D.PDF; ComponentLink3Description: Package Specification; ComponentLink3URL: http://www.onsemi.com/pub_link/Collateral/369AM.PDF
footprint ONSC-ATPAK-3-369AM_V (DPAK, 3-Leads, Body 7.3x6.5mm, Pitch 2.3mm)
pins: 1 G, 3 S, 4 D

## ATP107-TL-H
designator Q?
P-Channel Power MOSFET, -40 V, -50 A, 17 mOhm, Single, 3-Pin ATPAK, Pb-Free, Tape and Reel; Manufacturer: On Semiconductor; PartNumber: ATP107-TL-H; Channel Polarity: P Channel; Ciss Typ (pF): 2400; Coss Typ (pF): 330; Crss Typ (pF): 240; ID Max (A): 50; V(BR)DSS Min (V): 40; VGS Max (V): 20; VGS(th) Max (V): 2.6; PackageVersion: Rev. O, 02/2012; PackageReference: ATPAK-3-369AM; PackageDescription: 3-Pin Flange Mount, Body 6.5 x 7.3 mm, Pitch 2.3 mm; Supplier 1: Digi-Key; Supplier Part Number 1: ATP107-TL-H-ND; Supplier 2: Newark; Supplier Part Number 2: 52T7524; Supplier 3: Mouser; Supplier Part Number 3: 863-ATP107-TL-H; Configuration: Single; Package Type: DPAK (Single Gauge) / ATPAK; Packing: Tape and Reel; PD Max (W): 50; RoHS: Pb-Free; Mounting Technology: Surface Mount; ComponentLink1Description: Manufacturer URL; ComponentLink1URL: http://www.onsemi.com/; ComponentLink2Description: Datasheet; ComponentLink2URL: http://www.onsemi.com/pub_link/Collateral/ENA1603-D.PDF; ComponentLink3Description: Package Specification; ComponentLink3URL: http://www.onsemi.com/pub_link/Collateral/369AM.PDF
footprint ONSC-ATPAK-3-369AM_V (DPAK, 3-Leads, Body 7.3x6.5mm, Pitch 2.3mm)
pins: 1 G, 3 S, 4 D

## ATP108-TL-H
designator Q?
P-Channel Power MOSFET, -40 V, -70 A, 10.4 mOhm, Single, 3-Pin ATPAK, Pb-Free, Tape and Reel; Manufacturer: On Semiconductor; PartNumber: ATP108-TL-H; Channel Polarity: P Channel; Ciss Typ (pF): 3850; Coss Typ (pF): 560; Crss Typ (pF): 390; ID Max (A): 70; PD Max (W): 60; V(BR)DSS Min (V): 40; VGS Max (V): 20; VGS(th) Max (V): 2.6; PackageVersion: Rev. O, 02/2012; PackageReference: ATPAK-3-369AM; PackageDescription: 3-Pin Flange Mount, Body 6.5 x 7.3 mm, Pitch 2.3 mm; Supplier 1: Digi-Key; Supplier Part Number 1: 869-1076-2-ND; Supplier 2: Digi-Key; Supplier Part Number 2: 869-1076-1-ND; Supplier 3: Digi-Key; Supplier Part Number 3: 869-1076-6-ND; Supplier 4: Newark; Supplier Part Number 4: 52T7525; Supplier 5: Mouser; Supplier Part Number 5: 863-ATP108-TL-H; Configuration: Single; Package Type: DPAK (Single Gauge) / ATPAK; Packing: Tape and Reel; RoHS: Pb-Free; Mounting Technology: Surface Mount; ComponentLink1Description: Manufacturer URL; ComponentLink1URL: http://www.onsemi.com/; ComponentLink2Description: Datasheet; ComponentLink2URL: http://www.onsemi.com/pub_link/Collateral/ENA1604-D.PDF; ComponentLink3Description: Package Specification; ComponentLink3URL: http://www.onsemi.com/pub_link/Collateral/369AM.PDF
footprint ONSC-ATPAK-3-369AM_V (DPAK, 3-Leads, Body 7.3x6.5mm, Pitch 2.3mm)
pins: 1 G, 3 S, 4 D

## ATP112-TL-H
designator Q?
P-Channel Power MOSFET, -60 V, -25 A, 43 mOhm, Single, 3-Pin ATPAK, Pb-Free, Tape and Reel; Manufacturer: On Semiconductor; PartNumber: ATP112-TL-H; Channel Polarity: P Channel; Ciss Typ (pF): 1450; Coss Typ (pF): 155; Crss Typ (pF): 125; ID Max (A): 25; PD Max (W): 40; V(BR)DSS Min (V): 60; VGS Max (V): 20; VGS(th) Max (V): 2.6; PackageVersion: Rev. O, 02/2012; PackageReference: ATPAK-3-369AM; PackageDescription: 3-Pin Flange Mount, Body 6.5 x 7.3 mm, Pitch 2.3 mm; Supplier 1: Digi-Key; Supplier Part Number 1: ATP112-TL-H-ND; Supplier 2: Newark; Supplier Part Number 2: 52T7526; Supplier 3: Mouser; Supplier Part Number 3: 863-ATP112-TL-H; Configuration: Single; Package Type: DPAK (Single Gauge) / ATPAK; Packing: Tape and Reel; RoHS: Pb-Free; Mounting Technology: Surface Mount; ComponentLink1Description: Manufacturer URL; ComponentLink1URL: http://www.onsemi.com/; ComponentLink2Description: Datasheet; ComponentLink2URL: http://www.onsemi.com/pub_link/Collateral/ENA1754-D.PDF; ComponentLink3Description: Package Specification; ComponentLink3URL: http://www.onsemi.com/pub_link/Collateral/369AM.PDF
footprint ONSC-ATPAK-3-369AM_V (DPAK, 3-Leads, Body 7.3x6.5mm, Pitch 2.3mm)
pins: 1 G, 3 S, 4 D

## ATP113-TL-H
designator Q?
P-Channel Power MOSFET, -60 V, -35 A, 29.5 mOhm, Single, 3-Pin ATPAK, Pb-Free, Tape and Reel; Manufacturer: On Semiconductor; PartNumber: ATP113-TL-H; Channel Polarity: P Channel; Ciss Typ (pF): 2400; Coss Typ (pF): 250; Crss Typ (pF): 195; ID Max (A): 35; PD Max (W): 50; V(BR)DSS Min (V): 60; VGS Max (V): 20; VGS(th) Max (V): 2.6; PackageVersion: Rev. O, 02/2012; PackageReference: ATPAK-3-369AM; PackageDescription: 3-Pin Flange Mount, Body 6.5 x 7.3 mm, Pitch 2.3 mm; Supplier 1: Digi-Key; Supplier Part Number 1: 869-1077-2-ND; Supplier 2: Digi-Key; Supplier Part Number 2: 869-1077-1-ND; Supplier 3: Digi-Key; Supplier Part Number 3: 869-1077-6-ND; Supplier 4: Newark; Supplier Part Number 4: 52T7527; Supplier 5: Mouser; Supplier Part Number 5: 863-ATP113-TL-H; Configuration: Single; Package Type: DPAK (Single Gauge) / ATPAK; Packing: Tape and Reel; RoHS: Pb-Free; Mounting Technology: Surface Mount; ComponentLink1Description: Manufacturer URL; ComponentLink1URL: http://www.onsemi.com/; ComponentLink2Description: Datasheet; ComponentLink2URL: http://www.onsemi.com/pub_link/Collateral/ENA1755-D.PDF; ComponentLink3Description: Package Specification; ComponentLink3URL: http://www.onsemi.com/pub_link/Collateral/369AM.PDF
footprint ONSC-ATPAK-3-369AM_V (DPAK, 3-Leads, Body 7.3x6.5mm, Pitch 2.3mm)
pins: 1 G, 3 S, 4 D

## ATP114-TL-H
designator Q?
P-Channel Power MOSFET, -60 V, -55 A, 16 mOhm, Single, 3-Pin ATPAK, Pb-Free, Tape and Reel; Manufacturer: On Semiconductor; PartNumber: ATP114-TL-H; Channel Polarity: P Channel; Ciss Typ (pF): 4000; Coss Typ (pF): 400; Crss Typ (pF): 315; ID Max (A): 55; PD Max (W): 60; VGS Max (V): 20; VGS(th) Max (V): 2.6; PackageVersion: Rev. O, 02/2012; PackageReference: ATPAK-3-369AM; PackageDescription: 3-Pin Flange Mount, Body 6.5 x 7.3 mm, Pitch 2.3 mm; Supplier 1: Digi-Key; Supplier Part Number 1: ATP114-TL-H-ND; Supplier 2: Mouser; Supplier Part Number 2: 863-ATP114-TL-H; Configuration: Single; Package Type: DPAK (Single Gauge) / ATPAK; Packing: Tape and Reel; RoHS: Pb-Free; V(BR)DSS Min (V): 60; Mounting Technology: Surface Mount; ComponentLink1Description: Manufacturer URL; ComponentLink1URL: http://www.onsemi.com/; ComponentLink2Description: Datasheet; ComponentLink2URL: http://www.onsemi.com/pub_link/Collateral/ATP114-D.PDF; ComponentLink3Description: Package Specification; ComponentLink3URL: http://www.onsemi.com/pub_link/Collateral/369AM.PDF
footprint ONSC-ATPAK-3-369AM_V (DPAK, 3-Leads, Body 7.3x6.5mm, Pitch 2.3mm)
pins: 1 G, 3 S, 4 D

## ATP201-TL-H
designator Q?
N-Channel Power MOSFET, 30 V, 35 A, 17 mOhm, Single, 3-Pin ATPAK, Pb-Free, Tape and Reel; Manufacturer: On Semiconductor; PartNumber: ATP201-TL-H; Channel Polarity: N Channel; Ciss Typ (pF): 985; Coss Typ (pF): 180; Crss Typ (pF): 100; ID Max (A): 35; PD Max (W): 30; VGS Max (V): 20; VGS(th) Max (V): 2.6; PackageVersion: Rev. O, 02/2012; PackageReference: ATPAK-3-369AM; PackageDescription: 3-Pin Flange Mount, Body 6.5 x 7.3 mm, Pitch 2.3 mm; Supplier 1: Digi-Key; Supplier Part Number 1: ATP201-TL-H-ND; Supplier 2: Mouser; Supplier Part Number 2: 863-ATP201-TL-H; Configuration: Single; Package Type: DPAK (Single Gauge) / ATPAK; Packing: Tape and Reel; RoHS: Pb-Free; V(BR)DSS Min (V): 30; Mounting Technology: Surface Mount; ComponentLink1Description: Manufacturer URL; ComponentLink1URL: http://www.onsemi.com/; ComponentLink2Description: Datasheet; ComponentLink2URL: http://www.onsemi.com/pub_link/Collateral/ATP201-D.PDF; ComponentLink3Description: Package Specification; ComponentLink3URL: http://www.onsemi.com/pub_link/Collateral/369AM.PDF
footprint ONSC-ATPAK-3-369AM_V (DPAK, 3-Leads, Body 7.3x6.5mm, Pitch 2.3mm)
pins: 1 G, 3 S, 4 D

## ATP202-TL-H
designator Q?
N-Channel Power MOSFET, 30 V, 50 A, 12 mOhm, Single, 3-Pin ATPAK, Pb-Free, Tape and Reel; Manufacturer: On Semiconductor; PartNumber: ATP202-TL-H; Channel Polarity: N Channel; Ciss Typ (pF): 1650; Coss Typ (pF): 285; Crss Typ (pF): 160; ID Max (A): 50; PD Max (W): 40; V(BR)DSS Min (V): 30; VGS Max (V): 20; VGS(th) Max (V): 2.6; PackageVersion: Rev. O, 02/2012; PackageReference: ATPAK-3-369AM; PackageDescription: 3-Pin Flange Mount, Body 6.5 x 7.3 mm, Pitch 2.3 mm; Supplier 1: Digi-Key; Supplier Part Number 1: 869-1078-2-ND; Supplier 2: Digi-Key; Supplier Part Number 2: 869-1078-1-ND; Supplier 3: Digi-Key; Supplier Part Number 3: 869-1078-6-ND; Supplier 4: Mouser; Supplier Part Number 4: 863-ATP202-TL-H; Configuration: Single; Package Type: DPAK (Single Gauge) / ATPAK; Packing: Tape and Reel; RoHS: Pb-Free; Mounting Technology: Surface Mount; ComponentLink1Description: Manufacturer URL; ComponentLink1URL: http://www.onsemi.com/; ComponentLink2Description: Datasheet; ComponentLink2URL: http://www.onsemi.com/pub_link/Collateral/ATP202-D.PDF; ComponentLink3Description: Package Specification; ComponentLink3URL: http://www.onsemi.com/pub_link/Collateral/369AM.PDF
footprint ONSC-ATPAK-3-369AM_V (DPAK, 3-Leads, Body 7.3x6.5mm, Pitch 2.3mm)
pins: 1 G, 3 S, 4 D

## ATP203-TL-H
designator Q?
N-Channel Power MOSFET, 30 V, 75 A, 8.2 mOhm, Single, 3-Pin ATPAK, Pb-Free, Tape and Reel; Manufacturer: On Semiconductor; PartNumber: ATP203-TL-H; Channel Polarity: N Channel; Ciss Typ (pF): 2750; Coss Typ (pF): 450; Crss Typ (pF): 265; ID Max (A): 75; PD Max (W): 50; V(BR)DSS Min (V): 30; VGS Max (V): 20; VGS(th) Max (V): 2.6; PackageVersion: Rev. O, 02/2012; PackageReference: ATPAK-3-369AM; PackageDescription: 3-Pin Flange Mount, Body 6.5 x 7.3 mm, Pitch 2.3 mm; Supplier 1: Digi-Key; Supplier Part Number 1: 869-1079-2-ND; Supplier 2: Digi-Key; Supplier Part Number 2: 869-1079-1-ND; Supplier 3: Digi-Key; Supplier Part Number 3: 869-1079-6-ND; Supplier 4: Mouser; Supplier Part Number 4: 863-ATP203-TL-H; Configuration: Single; Package Type: DPAK (Single Gauge) / ATPAK; Packing: Tape and Reel; RoHS: Pb-Free; Mounting Technology: Surface Mount; ComponentLink1Description: Manufacturer URL; ComponentLink1URL: http://www.onsemi.com/; ComponentLink2Description: Datasheet; ComponentLink2URL: http://www.onsemi.com/pub_link/Collateral/ATP203-D.PDF; ComponentLink3Description: Package Specification; ComponentLink3URL: http://www.onsemi.com/pub_link/Collateral/369AM.PDF
footprint ONSC-ATPAK-3-369AM_V (DPAK, 3-Leads, Body 7.3x6.5mm, Pitch 2.3mm)
pins: 1 G, 3 S, 4 D

## ATP204-TL-H
designator Q?
N-Channel Power MOSFET, 30 V, 100 A, 5.6 mOhm, Single, 3-Pin ATPAK, Pb-Free, Tape and Reel; Manufacturer: On Semiconductor; PartNumber: ATP204-TL-H; Channel Polarity: N Channel; Ciss Typ (pF): 4600; Coss Typ (pF): 700; Crss Typ (pF): 390; ID Max (A): 100; PD Max (W): 60; V(BR)DSS Min (V): 30; VGS Max (V): 20; VGS(th) Max (V): 2.6; PackageVersion: Rev. O, 02/2012; PackageReference: ATPAK-3-369AM; PackageDescription: 3-Pin Flange Mount, Body 6.5 x 7.3 mm, Pitch 2.3 mm; Supplier 1: Digi-Key; Supplier Part Number 1: 869-1080-2-ND; Supplier 2: Digi-Key; Supplier Part Number 2: 869-1080-1-ND; Supplier 3: Digi-Key; Supplier Part Number 3: 869-1080-6-ND; Supplier 4: Mouser; Supplier Part Number 4: 863-ATP204-TL-H; Configuration: Single; Package Type: DPAK (Single Gauge) / ATPAK; Packing: Tape and Reel; RoHS: Pb-Free; Mounting Technology: Surface Mount; ComponentLink1Description: Manufacturer URL; ComponentLink1URL: http://www.onsemi.com/; ComponentLink2Description: Datasheet; ComponentLink2URL: http://www.onsemi.com/pub_link/Collateral/ATP204-D.PDF; ComponentLink3Description: Package Specification; ComponentLink3URL: http://www.onsemi.com/pub_link/Collateral/369AM.PDF
footprint ONSC-ATPAK-3-369AM_V (DPAK, 3-Leads, Body 7.3x6.5mm, Pitch 2.3mm)
pins: 1 G, 3 S, 4 D

## ATP206-TL-H
designator Q?
N-Channel Power MOSFET, 40 V, 40 A, 16 mOhm, Single, 3-Pin ATPAK, Pb-Free, Tape and Reel; Manufacturer: On Semiconductor; PartNumber: ATP206-TL-H; Channel Polarity: N Channel; Ciss Typ (pF): 1630; Coss Typ (pF): 205; Crss Typ (pF): 110; ID Max (A): 40; VGS Max (V): 20; VGS(th) Max (V): 2.6; PackageVersion: Rev. O, 02/2012; PackageReference: ATPAK-3-369AM; PackageDescription: 3-Pin Flange Mount, Body 6.5 x 7.3 mm, Pitch 2.3 mm; Supplier 1: Digi-Key; Supplier Part Number 1: 869-1081-2-ND; Supplier 2: Digi-Key; Supplier Part Number 2: 869-1081-1-ND; Supplier 3: Digi-Key; Supplier Part Number 3: 869-1081-6-ND; Supplier 4: Mouser; Supplier Part Number 4: 863-ATP206-TL-H; Configuration: Single; Package Type: DPAK (Single Gauge) / ATPAK; Packing: Tape and Reel; PD Max (W): 40; RoHS: Pb-Free; V(BR)DSS Min (V): 40; Mounting Technology: Surface Mount; ComponentLink1Description: Manufacturer URL; ComponentLink1URL: http://www.onsemi.com/; ComponentLink2Description: Datasheet; ComponentLink2URL: http://www.onsemi.com/pub_link/Collateral/ATP206-D.PDF; ComponentLink3Description: Package Specification; ComponentLink3URL: http://www.onsemi.com/pub_link/Collateral/369AM.PDF
footprint ONSC-ATPAK-3-369AM_V (DPAK, 3-Leads, Body 7.3x6.5mm, Pitch 2.3mm)
pins: 1 G, 3 S, 4 D

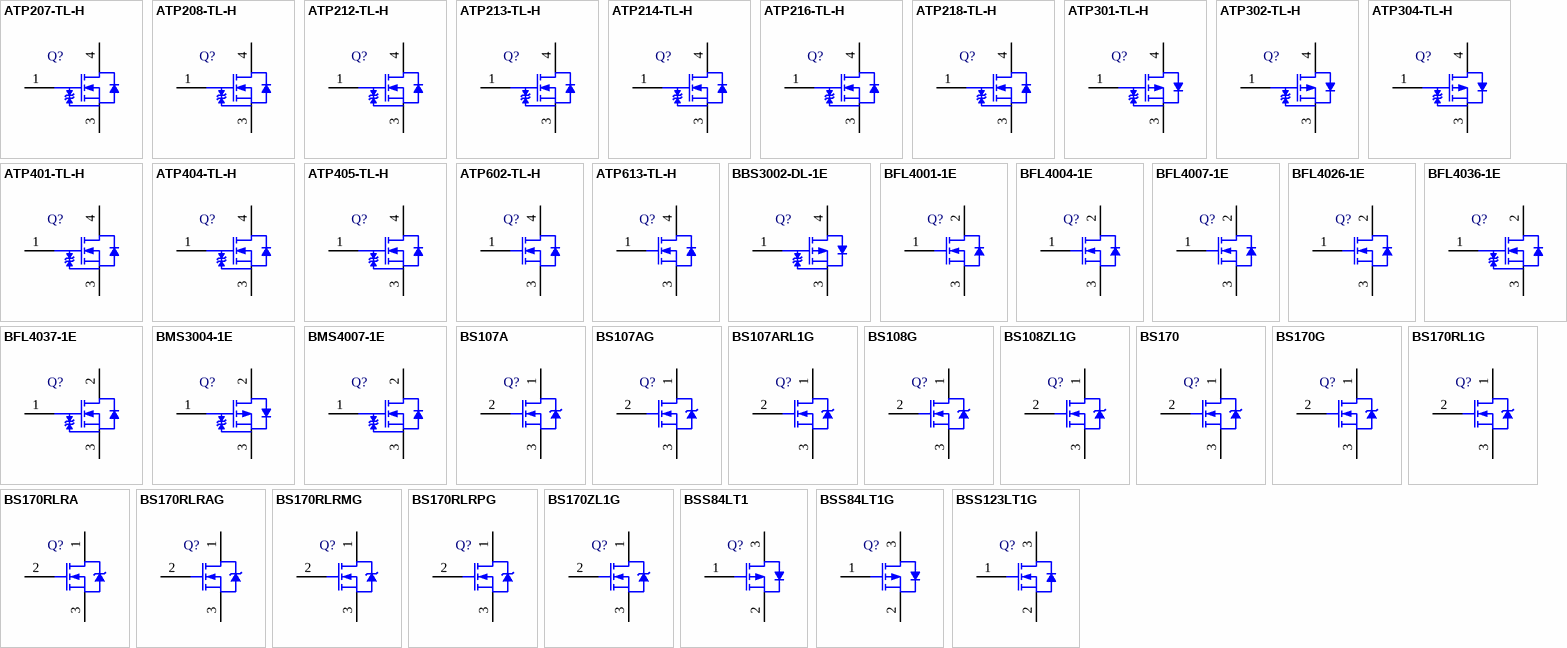
[diagram p2: symbols ATP207-TL-H to BSS123LT1G]

## ATP207-TL-H
designator Q?
N-Channel Power MOSFET, 40 V, 65 A, 9.1 mOhm, Single, 3-Pin ATPAK, Pb-Free, Tape and Reel; Manufacturer: On Semiconductor; PartNumber: ATP207-TL-H; Channel Polarity: N Channel; Ciss Typ (pF): 2710; Coss Typ (pF): 330; Crss Typ (pF): 220; ID Max (A): 65; PD Max (W): 50; V(BR)DSS Min (V): 40; VGS Max (V): 20; VGS(th) Max (V): 2.6; PackageVersion: Rev. O, 02/2012; PackageReference: ATPAK-3-369AM; PackageDescription: 3-Pin Flange Mount, Body 6.5 x 7.3 mm, Pitch 2.3 mm; Supplier 1: Digi-Key; Supplier Part Number 1: 869-1082-2-ND; Supplier 2: Digi-Key; Supplier Part Number 2: 869-1082-1-ND; Supplier 3: Digi-Key; Supplier Part Number 3: 869-1082-6-ND; Supplier 4: Mouser; Supplier Part Number 4: 863-ATP207-TL-H; Configuration: Single; Package Type: DPAK (Single Gauge) / ATPAK; Packing: Tape and Reel; RoHS: Pb-Free; Mounting Technology: Surface Mount; ComponentLink1Description: Manufacturer URL; ComponentLink1URL: http://www.onsemi.com/; ComponentLink2Description: Datasheet; ComponentLink2URL: http://www.onsemi.com/pub_link/Collateral/ATP207-D.PDF; ComponentLink3Description: Package Specification; ComponentLink3URL: http://www.onsemi.com/pub_link/Collateral/369AM.PDF
footprint ONSC-ATPAK-3-369AM_V (DPAK, 3-Leads, Body 7.3x6.5mm, Pitch 2.3mm)
pins: 1 G, 3 S, 4 D

## ATP208-TL-H
designator Q?
N-Channel Power MOSFET, 40 V, 90 A, 6 mOhm, Single, 3-Pin ATPAK, Pb-Free, Tape and Reel; Manufacturer: On Semiconductor; PartNumber: ATP208-TL-H; Channel Polarity: N Channel; Ciss Typ (pF): 4510; Coss Typ (pF): 535; Crss Typ (pF): 385; ID Max (A): 90; PD Max (W): 60; V(BR)DSS Min (V): 40; VGS Max (V): 20; VGS(th) Max (V): 2.6; PackageVersion: Rev. O, 02/2012; PackageReference: ATPAK-3-369AM; PackageDescription: 3-Pin Flange Mount, Body 6.5 x 7.3 mm, Pitch 2.3 mm; Supplier 1: Digi-Key; Supplier Part Number 1: 869-1083-2-ND; Supplier 2: Digi-Key; Supplier Part Number 2: 869-1083-1-ND; Supplier 3: Digi-Key; Supplier Part Number 3: 869-1083-6-ND; Supplier 4: Mouser; Supplier Part Number 4: 863-ATP208-TL-H; Configuration: Single; Package Type: DPAK (Single Gauge) / ATPAK; Packing: Tape and Reel; RoHS: Pb-Free; Mounting Technology: Surface Mount; ComponentLink1Description: Manufacturer URL; ComponentLink1URL: http://www.onsemi.com/; ComponentLink2Description: Datasheet; ComponentLink2URL: http://www.onsemi.com/pub_link/Collateral/ATP208-D.PDF; ComponentLink3Description: Package Specification; ComponentLink3URL: http://www.onsemi.com/pub_link/Collateral/369AM.PDF
footprint ONSC-ATPAK-3-369AM_V (DPAK, 3-Leads, Body 7.3x6.5mm, Pitch 2.3mm)
pins: 1 G, 3 S, 4 D